# Altium schematic symbol library SPX2954M3-L-3-3TR.SchLib: 2 symbols
Pins are listed as number, name and electrical type; pins without a type are passive.

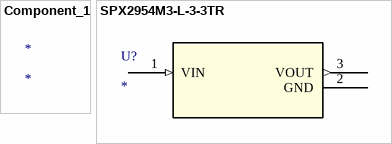
[diagram p0: symbols Component_1 to SPX2954M3-L-3-3TR]

## Component_1
designator *

## SPX2954M3-L-3-3TR
designator U?
No Description Available; Mfr_Name: MaxLinear / Exar; RefDes: RefDes; Type: Type
footprint SOT-223-3_VAR-AA
pins: 1 VIN (in), 2 GND (power), 3 VOUT (out)